# EAGLE library part AD5271 (library FM_transmitter)
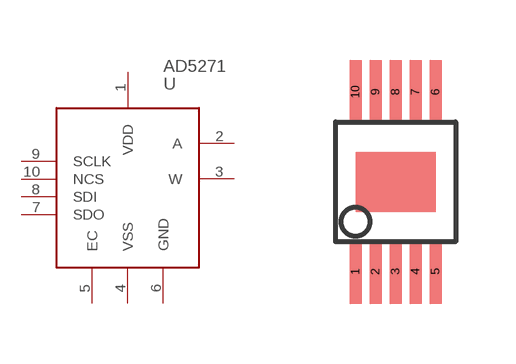
[diagram p8: symbol with the pads of MSOP-10; footprint MSOP-10]

Designator prefix -

## AD5271  [MSOP-10]
1  VDD
2  A
3  W
4  VSS
5  EC
6  GND
7  SDO
8  SDI
9  SCLK
10  NCS

## Footprint MSOP-10 (pad centres in mm)
smd 0.3 x 1.6: 1 -1,-2.25; 2 -0.5,-2.25; 3 0,-2.25; 4 0.5,-2.25; 5 1,-2.25; 6 1,2.25; 7 0.5,2.25; 8 0,2.25; 9 -0.5,2.25; 10 -1,2.25